# EAGLE library part ACPL-247 (library work)
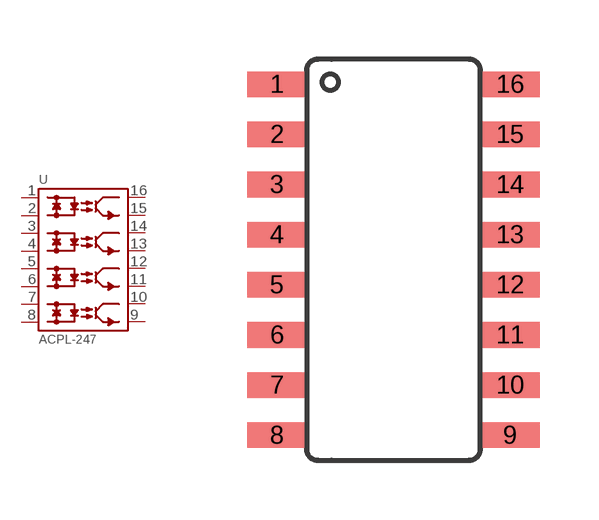
[diagram p75: symbol with the pads of SO16-4.4MM; footprint SO16-4.4MM]

Designator prefix U

## ACPL-247  [SO16-4.4MM]
1  1
2  2
3  3
4  4
5  5
6  6
7  7
8  8
9  9
10  10
11  11
12  12
13  13
14  14
15  15
16  16

## Footprint SO16-4.4MM (pad centres in mm)
smd 1.5 x 0.65: 1 -2.95,4.445; 2 -2.95,3.175; 3 -2.95,1.905; 4 -2.95,0.635; 5 -2.95,-0.635; 6 -2.95,-1.905; 7 -2.95,-3.175; 8 -2.95,-4.445; 9 2.95,-4.445; 10 2.95,-3.175; 11 2.95,-1.905; 12 2.95,-0.635; 13 2.95,0.635; 14 2.95,1.905; 15 2.95,3.175; 16 2.95,4.445